# Altium footprint library R305.PcbLib: 1 footprints
Each footprint in its own frame and in the unit in brackets; x right, y up, seen from the top. Pads: shape width x height; smd on the part's side, far side on the other; paste and mask are expansions set on the pad; w line width, h text height; cw(c..) or ccw(c..) is an arc to the next point about the centre after c.
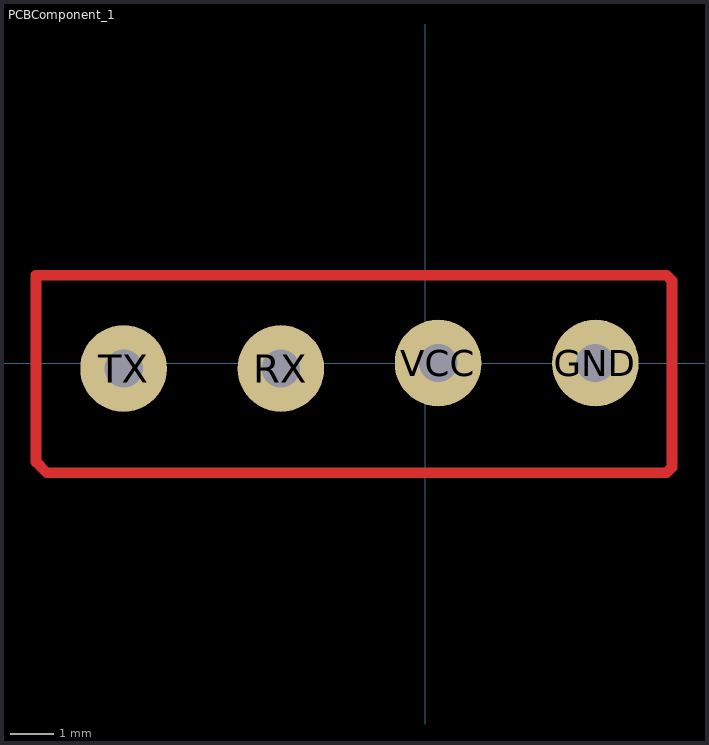
[diagram p0: the footprint, top view; thin cyan lines are the x and y axes]

## PCBComponent_1 [mil]
pads (4):
  round 79 hole 35 mask+4: GND(155,0) RX(-131.67,-5) TX(-275,-5) VCC(11.67,0)
Top Layer:
  lines w10: -355,-90 -355,80 -340,80 220,80 225,75 225,-95 220,-100 -345,-100 -355,-90